# EAGLE library part CY8C58LPXXX (library cypress)
CY8C58LPXXX_TQFP100_4JTAG edit this description Auto generated by make-symbol-device-package-bsdl.ulp Rev. 43 Source: CY8C58LPXXX_TQFP100_4JTAG.bsdl
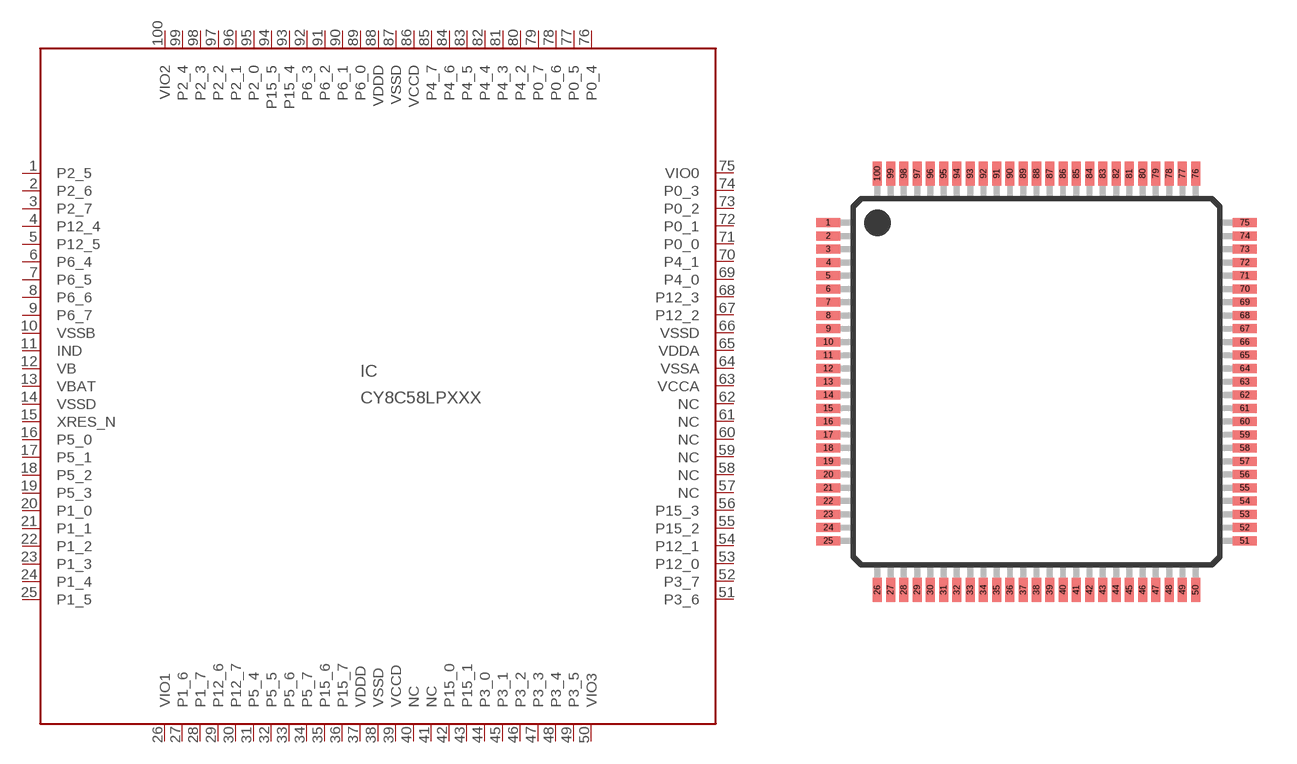
[diagram p2: symbol with the pads of TQFP100-14X14; footprint TQFP100-14X14]

Designator prefix IC

## CY8C58LPXXX  [TQFP100-14X14]
1  P2_5
2  P2_6
3  P2_7
4  P12_4
5  P12_5
6  P6_4
7  P6_5
8  P6_6
9  P6_7
10  VSSB  pwr
11  IND  pas
12  VB  pas
13  VBAT  pas
14  VSSD  pwr
15  XRES_N  in
16  P5_0
17  P5_1
18  P5_2
19  P5_3
20  P1_0  in
21  P1_1  in
22  P1_2
23  P1_3  out
24  P1_4  in
25  P1_5
26  VIO1  pas
27  P1_6
28  P1_7
29  P12_6
30  P12_7
31  P5_4
32  P5_5
33  P5_6
34  P5_7
35  P15_6  hiz
36  P15_7  hiz
37  VDDD  pwr
38  VSSD  pwr
39  VCCD  pwr
40  NC  nc
41  NC  nc
42  P15_0
43  P15_1
44  P3_0
45  P3_1
46  P3_2
47  P3_3
48  P3_4
49  P3_5
50  VIO3  pas
51  P3_6
52  P3_7
53  P12_0
54  P12_1
55  P15_2
56  P15_3
57  NC  nc
58  NC  nc
59  NC  nc
60  NC  nc
61  NC  nc
62  NC  nc
63  VCCA  pwr
64  VSSA  pwr
65  VDDA  pwr
66  VSSD  pwr
67  P12_2
68  P12_3
69  P4_0
70  P4_1
71  P0_0
72  P0_1
73  P0_2
74  P0_3
75  VIO0  pas
76  P0_4
77  P0_5
78  P0_6
79  P0_7
80  P4_2
81  P4_3
82  P4_4
83  P4_5
84  P4_6
85  P4_7
86  VCCD  pwr
87  VSSD  pwr
88  VDDD  pwr
89  P6_0
90  P6_1
91  P6_2
92  P6_3
93  P15_4
94  P15_5
95  P2_0
96  P2_1
97  P2_2
98  P2_3
99  P2_4
100  VIO2  pas

## Footprint TQFP100-14X14 (pad centres in mm)
TQFP100 Auto generated by make-symbol-device-package-bsdl.ulp Rev. 43
smd 0.9 x 0.34: 1 -7.85,6; 2 -7.85,5.5; 3 -7.85,5; 4 -7.85,4.5; 5 -7.85,4; 6 -7.85,3.5; 7 -7.85,3; 8 -7.85,2.5; 9 -7.85,2; 10 -7.85,1.5; 11 -7.85,1; 12 -7.85,0.5; 13 -7.85,0; 14 -7.85,-0.5; 15 -7.85,-1; 16 -7.85,-1.5; 17 -7.85,-2; 18 -7.85,-2.5; 19 -7.85,-3; 20 -7.85,-3.5; 21 -7.85,-4; 22 -7.85,-4.5; 23 -7.85,-5; 24 -7.85,-5.5; 25 -7.85,-6; 51 7.85,-6; 52 7.85,-5.5; 53 7.85,-5; 54 7.85,-4.5; 55 7.85,-4; 56 7.85,-3.5; 57 7.85,-3; 58 7.85,-2.5; 59 7.85,-2; 60 7.85,-1.5; 61 7.85,-1; 62 7.85,-0.5; 63 7.85,0; 64 7.85,0.5; 65 7.85,1; 66 7.85,1.5; 67 7.85,2; 68 7.85,2.5; 69 7.85,3; 70 7.85,3.5; 71 7.85,4; 72 7.85,4.5; 73 7.85,5; 74 7.85,5.5; 75 7.85,6
smd 0.34 x 0.9: 26 -6,-7.85; 27 -5.5,-7.85; 28 -5,-7.85; 29 -4.5,-7.85; 30 -4,-7.85; 31 -3.5,-7.85; 32 -3,-7.85; 33 -2.5,-7.85; 34 -2,-7.85; 35 -1.5,-7.85; 36 -1,-7.85; 37 -0.5,-7.85; 38 0,-7.85; 39 0.5,-7.85; 40 1,-7.85; 41 1.5,-7.85; 42 2,-7.85; 43 2.5,-7.85; 44 3,-7.85; 45 3.5,-7.85; 46 4,-7.85; 47 4.5,-7.85; 48 5,-7.85; 49 5.5,-7.85; 50 6,-7.85; 76 6,7.85; 77 5.5,7.85; 78 5,7.85; 79 4.5,7.85; 80 4,7.85; 81 3.5,7.85; 82 3,7.85; 83 2.5,7.85; 84 2,7.85; 85 1.5,7.85; 86 1,7.85; 87 0.5,7.85; 88 0,7.85; 89 -0.5,7.85; 90 -1,7.85; 91 -1.5,7.85; 92 -2,7.85; 93 -2.5,7.85; 94 -3,7.85; 95 -3.5,7.85; 96 -4,7.85; 97 -4.5,7.85; 98 -5,7.85; 99 -5.5,7.85; 100 -6,7.85